# Altium footprint library Connectors THD.PcbLib: 18 footprints (part 2 of 2)
Each footprint in its own frame and in the unit in brackets; x right, y up, seen from the top. Pads: shape width x height; smd on the part's side, far side on the other; paste and mask are expansions set on the pad; w line width, h text height; cw(c..) or ccw(c..) is an arc to the next point about the centre after c.
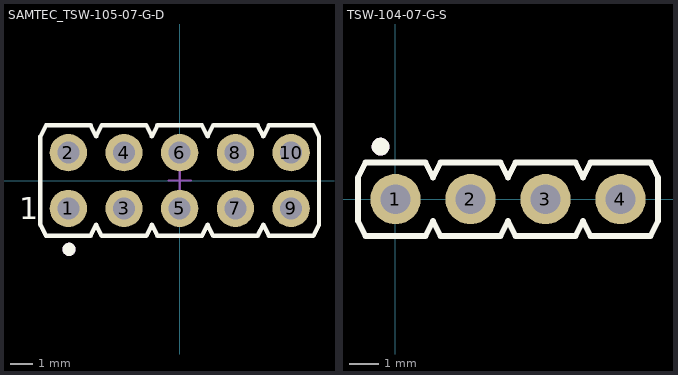
[diagram p1: the footprints below, top view; thin cyan lines are the x and y axes]

## SAMTEC_TSW-105-07-G-D [mm] "10 Contacts - Pitch 2.54mm - Dual Row Through Mount Straight Header (Post Lead = 6.35mm, Tail Lead 3.05mm, Insulator 1.52mm)"
height 7.87
pads (10):
  round 1.7 hole 1: 1(-5.08,-1.27) 2(-5.08,1.27) 3(-2.54,-1.27) 4(-2.54,1.27) 5(0,-1.27) 6(0,1.27) 7(2.54,-1.27) 8(2.54,1.27) 9(5.08,-1.27) 10(5.08,1.27)
Top Overlay:
  circle w0.3: c-5.045,-3.135 r0.15
  lines w0.2: -6.35,-2.007 -6.35,2.007 -6.096,2.515 -4.064,2.515 -3.81,2.007 -3.556,2.515 -1.524,2.515 -1.27,2.007 -1.016,2.515 1.016,2.515 1.27,2.007 1.524,2.515 3.556,2.515 3.81,2.007 4.064,2.515 6.096,2.515 6.35,2.007 6.35,-2.007 6.096,-2.515 4.064,-2.515 3.81,-2.007 3.556,-2.515 1.524,-2.515 1.27,-2.007 1.016,-2.515 -1.016,-2.515 -1.27,-2.007 -1.524,-2.515 -3.556,-2.515 -3.81,-2.007 -4.064,-2.515 -6.096,-2.515 -6.35,-2.007
  text "1" at -7.327,-1.768 h1
Mechanical 8:
  lines w0.1: -5.58,-1.27 -5.08,-1.27 ; -5.58,1.27 -5.08,1.27 ; -5.08,-1.77 -5.08,-1.27 ; -5.08,-0.77 -5.08,-1.27 ; -5.08,0.77 -5.08,1.27 ; -5.08,1.77 -5.08,1.27 ; -4.58,-1.27 -5.08,-1.27 ; -4.58,1.27 -5.08,1.27 ; -3.04,-1.27 -2.54,-1.27 ; -3.04,1.27 -2.54,1.27 ; -2.54,-1.77 -2.54,-1.27 ; -2.54,-0.77 -2.54,-1.27 ; -2.54,0.77 -2.54,1.27 ; -2.54,1.77 -2.54,1.27 ; -2.04,-1.27 -2.54,-1.27 ; -2.04,1.27 -2.54,1.27 ; -0.5,-1.27 0,-1.27 ; -0.5,0 0,0 ; -0.5,1.27 0,1.27 ; 0,-1.77 0,-1.27 ; 0,-0.77 0,-1.27 ; 0,-0.5 0,0 ; 0,0.5 0,0 ; 0,0.77 0,1.27 ; 0,1.77 0,1.27 ; 0.5,-1.27 0,-1.27 ; 0.5,0 0,0 ; 0.5,1.27 0,1.27 ; 2.04,-1.27 2.54,-1.27 ; 2.04,1.27 2.54,1.27 ; 2.54,-1.77 2.54,-1.27 ; 2.54,-0.77 2.54,-1.27 ; 2.54,0.77 2.54,1.27 ; 2.54,1.77 2.54,1.27 ; 3.04,-1.27 2.54,-1.27 ; 3.04,1.27 2.54,1.27 ; 4.58,-1.27 5.08,-1.27 ; 4.58,1.27 5.08,1.27 ; 5.08,-1.77 5.08,-1.27 ; 5.08,-0.77 5.08,-1.27 ; 5.08,0.77 5.08,1.27 ; 5.08,1.77 5.08,1.27 ; 5.58,-1.27 5.08,-1.27 ; 5.58,1.27 5.08,1.27
Mechanical 14:
  circle w0.3: c-5.045,-3.135 r0.15
  lines w0.1: -6.35,-2.007 -6.35,2.007 -6.096,2.515 -4.064,2.515 -3.81,2.007 -3.556,2.515 -1.524,2.515 -1.27,2.007 -1.016,2.515 1.016,2.515 1.27,2.007 1.524,2.515 3.556,2.515 3.81,2.007 4.064,2.515 6.096,2.515 6.35,2.007 6.35,-2.007 6.096,-2.515 4.064,-2.515 3.81,-2.007 3.556,-2.515 1.524,-2.515 1.27,-2.007 1.016,-2.515 -1.016,-2.515 -1.27,-2.007 -1.524,-2.515 -3.556,-2.515 -3.81,-2.007 -4.064,-2.515 -6.096,-2.515 -6.35,-2.007 ; -5.397,-1.587 -5.397,-0.953 -4.762,-0.953 -4.762,-1.587 -5.397,-1.587 ; -5.397,0.953 -5.397,1.587 -4.762,1.587 -4.762,0.953 -5.397,0.953 ; -2.857,-1.587 -2.857,-0.953 -2.222,-0.953 -2.222,-1.587 -2.857,-1.587 ; -2.857,0.953 -2.857,1.587 -2.222,1.587 -2.222,0.953 -2.857,0.953 ; -0.317,-1.587 -0.317,-0.953 0.318,-0.953 0.318,-1.587 -0.317,-1.587 ; -0.317,0.953 -0.317,1.587 0.318,1.587 0.318,0.953 -0.317,0.953 ; 2.223,-1.587 2.223,-0.953 2.858,-0.953 2.858,-1.587 2.223,-1.587 ; 2.223,0.953 2.223,1.587 2.858,1.587 2.858,0.953 2.223,0.953 ; 4.763,-1.587 4.763,-0.953 5.398,-0.953 5.398,-1.587 4.763,-1.587 ; 4.763,0.953 4.763,1.587 5.398,1.587 5.398,0.953 4.763,0.953
  text "1" at -7.327,-1.768 h1
3D body "SAMTEC_MTLW-105-07-L-D-250.stp": height 7.87, standoff -3.05, extent -6.35,-2.514 6.35,2.515

## TSW-104-07-G-S [mm] "4 Contacts - Pitch 2.54mm - Single Row Through Mount Straight Header (Post Lead = 6.35mm, Tail Lead 3.05mm, Insulator 1.52mm)"
height 7.87
pads (4):
  round 1.7 hole 1: 1(0,0) 2(2.54,0) 3(5.08,0) 4(7.62,0)
Top Overlay:
  circle w0.3: c-0.508,1.778 r0.15
  lines w0.2: -1.27,-0.737 -1.27,0.737 -1.016,1.245 1.016,1.245 1.27,0.737 1.524,1.245 3.556,1.245 3.81,0.737 4.064,1.245 6.096,1.245 6.35,0.737 6.604,1.245 8.636,1.245 8.89,0.737 8.89,-0.737 8.636,-1.245 6.604,-1.245 6.35,-0.737 6.096,-1.245 4.064,-1.245 3.81,-0.737 3.556,-1.245 1.524,-1.245 1.27,-0.737 1.016,-1.245 -1.016,-1.245 -1.27,-0.737
Mechanical 8:
  lines w0.1: -0.5,0 0,0 ; 0,-0.5 0,0 ; 0,0.5 0,0 ; 0.5,0 0,0 ; 2.04,0 2.54,0 ; 2.54,-0.5 2.54,0 ; 2.54,0.5 2.54,0 ; 3.04,0 2.54,0 ; 4.58,0 5.08,0 ; 5.08,-0.5 5.08,0 ; 5.08,0.5 5.08,0 ; 5.58,0 5.08,0 ; 7.12,0 7.62,0 ; 7.62,-0.5 7.62,0 ; 7.62,0.5 7.62,0 ; 8.12,0 7.62,0
Mechanical 14:
  circle w0.3: c-0.508,1.778 r0.15
  lines w0.1: -1.27,-0.737 -1.27,0.737 -1.016,1.245 1.016,1.245 1.27,0.737 1.524,1.245 3.556,1.245 3.81,0.737 4.064,1.245 6.096,1.245 6.35,0.737 6.604,1.245 8.636,1.245 8.89,0.737 8.89,-0.737 8.636,-1.245 6.604,-1.245 6.35,-0.737 6.096,-1.245 4.064,-1.245 3.81,-0.737 3.556,-1.245 1.524,-1.245 1.27,-0.737 1.016,-1.245 -1.016,-1.245 -1.27,-0.737 ; -0.317,-0.318 -0.317,0.318 0.318,0.318 0.318,-0.318 -0.317,-0.318 ; 2.223,-0.318 2.223,0.318 2.858,0.318 2.858,-0.318 2.223,-0.318 ; 4.763,-0.318 4.763,0.318 5.398,0.318 5.398,-0.318 4.763,-0.318 ; 7.303,-0.318 7.303,0.318 7.938,0.318 7.938,-0.318 7.303,-0.318
3D body "TSW-104-07-G-S.stp": height 7.87, standoff -3.05, extent -1.27,-1.244 8.89,1.245